# EAGLE library part IS61WV102416BLL (library LAB-PRIME)
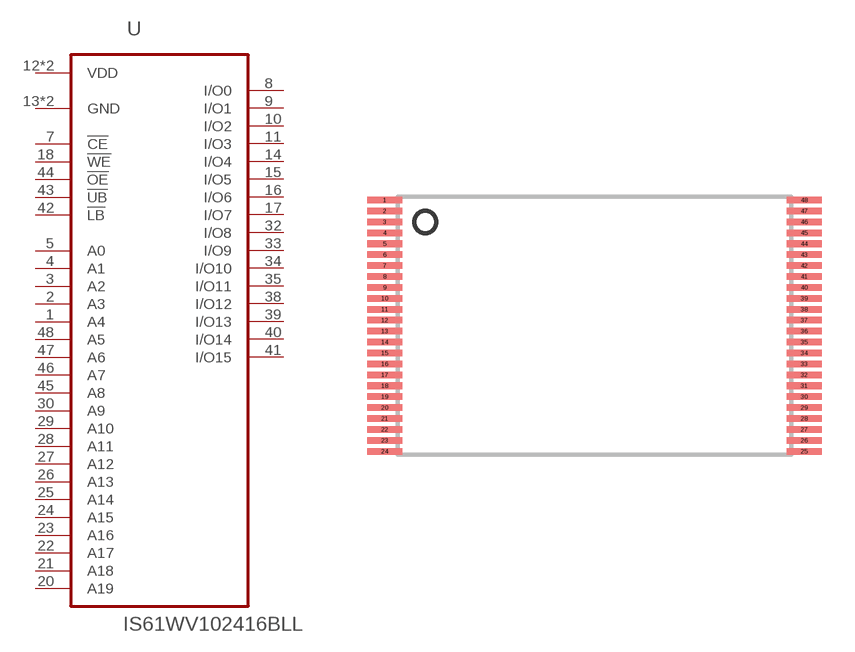
[diagram p0: symbol with the pads of TSOP48L; footprint TSOP48L]

Designator prefix -

## IS61WV102416BLL  [TSOP48L]
1  A4  in
2  A3  in
3  A2  in
4  A1  in
5  A0  in
7  !CE  in
8  I/O0
9  I/O1
10  I/O2
11  I/O3
12  VDD  pwr
13  GND  pas
14  I/O4
15  I/O5
16  I/O6
17  I/O7
18  !WE  in
20  A19  in
21  A18  in
22  A17  in
23  A16  in
24  A15  in
25  A14  in
26  A13  in
27  A12  in
28  A11  in
29  A10  in
30  A9  in
32  I/O8
33  I/O9
34  I/O10
35  I/O11
36  VDD  pwr
37  GND  pas
38  I/O12
39  I/O13
40  I/O14
41  I/O15
42  !LB  pas
43  !UB  pas
44  !OE  in
45  A8  in
46  A7  in
47  A6  in
48  A5  in

## Footprint TSOP48L (pad centres in mm)
Thin Small Outline Package
smd 1.6 x 0.3: 1 -9.6,5.75; 2 -9.6,5.25; 3 -9.6,4.75; 4 -9.6,4.25; 5 -9.6,3.75; 6 -9.6,3.25; 7 -9.6,2.75; 8 -9.6,2.25; 9 -9.6,1.75; 10 -9.6,1.25; 11 -9.6,0.75; 12 -9.6,0.25; 13 -9.6,-0.25; 14 -9.6,-0.75; 15 -9.6,-1.25; 16 -9.6,-1.75; 17 -9.6,-2.25; 18 -9.6,-2.75; 19 -9.6,-3.25; 20 -9.6,-3.75; 21 -9.6,-4.25; 22 -9.6,-4.75; 23 -9.6,-5.25; 24 -9.6,-5.75; 25 9.6,-5.75; 26 9.6,-5.25; 27 9.6,-4.75; 28 9.6,-4.25; 29 9.6,-3.75; 30 9.6,-3.25; 31 9.6,-2.75; 32 9.6,-2.25; 33 9.6,-1.75; 34 9.6,-1.25; 35 9.6,-0.75; 36 9.6,-0.25; 37 9.6,0.25; 38 9.6,0.75; 39 9.6,1.25; 40 9.6,1.75; 41 9.6,2.25; 42 9.6,2.75; 43 9.6,3.25; 44 9.6,3.75; 45 9.6,4.25; 46 9.6,4.75; 47 9.6,5.25; 48 9.6,5.75